# Altium integrated library XRCGB32M000F2P01R0.IntLib: 1 symbol
Pins are listed as number, name and electrical type; pins without a type are passive.

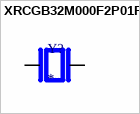
[diagram p0: symbol XRCGB32M000F2P01R0]

## XRCGB32M000F2P01R0
designator Y?
32MHz Â±20ppm Crystal 8pF 100 Ohms 4-SMD, No Lead; MP: XRCGB32M000F2P01R0; MF: Murata Electronics; Package: SMD-4 Murata; Availability: In Stock; SnapEDA_Link: https://www.snapeda.com/parts/XRCGB32M000F2P01R0/Murata%20Electronics%20North%20America/view-part/3227036/?ref=snap; Price: None; Check_prices: https://www.snapeda.com/parts/XRCGB32M000F2P01R0/Murata%20Electronics%20North%20America/view-part/3227036/?ref=eda; Value: *
footprint OSC_XRCGB32M000F2P01R0
pins: 1, 3